# EAGLE library part CAY10-XXXJ4 (library Mine)
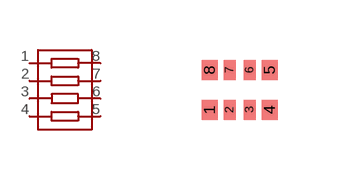
[diagram p52: symbol with the pads of 0804ARR; footprint 0804ARR]

Designator prefix -

## CAY10-XXXJ4  [0804ARR]
1  1
2  2
3  3
4  4
5  5
6  6
7  7
8  8

## Footprint 0804ARR (pad centres in mm)
smd 0.4 x 0.5: 1 -1,-0.5; 4 0.5,-0.5; 5 0.5,0.5; 8 -1,0.5
smd 0.3 x 0.5: 2 -0.5,-0.5; 3 0,-0.5; 6 0,0.5; 7 -0.5,0.5